# Altium integrated library Altium_WCAP-CSGP_rev19b.IntLib: 939 symbols (part 10 of 16)
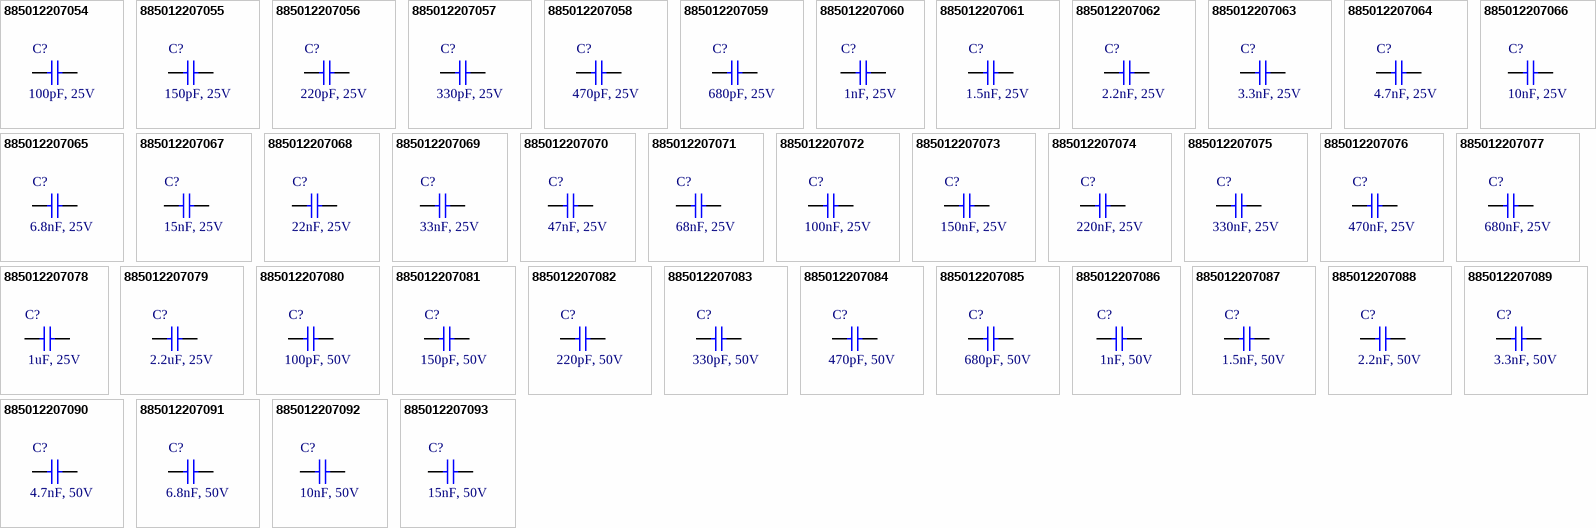
[diagram p36: symbols 885012207054 to 885012207093]

## 885012207070
designator C?, comment 47nF, 25V
WCAP-CSGP General Purpose Ceramic Capacitors, size 0805, 47nF, +/-10%, 25VDC; Part Number: 885012207070; Isolation Resistance: >=10GOhm; Ceramic Type: X7R; Technical Reference: X7R0805473K025DFCT10000; ComponentLink1Description: Manufacturer; ComponentLink1URL: http://www.we-online.de; ComponentLink2Description: Datasheet; ComponentLink2URL: https://katalog.we-online.com/pbs/datasheet/885012207070.pdf; Operating Temperature: -55 to +125degC; Packaging: Tape and Reel; Publisher: Wurth Elektronik; Rated Voltage: 25VDC; Published Date: August 2019; Capacitance Tolerance: +/-10%; Dissipation Factor: =<3.5%; Height: 0.8mm +/-0.10mm; Mounting Technology: SMT; Size: 0805; Capacitance: 47nF
footprint WCAP-CSGP_0805_H=0.8mm_Wave
footprint WCAP-CSGP_0805_H=0.8mm_Reflow
pins: 1, 2

## 885012207071
designator C?, comment 68nF, 25V
WCAP-CSGP General Purpose Ceramic Capacitors, size 0805, 68nF, +/-10%, 25VDC; Part Number: 885012207071; Isolation Resistance: >=7.4GOhm; Ceramic Type: X7R; Technical Reference: X7R0805683K025DFCT10000; ComponentLink1Description: Manufacturer; ComponentLink1URL: http://www.we-online.de; ComponentLink2Description: Datasheet; ComponentLink2URL: https://katalog.we-online.com/pbs/datasheet/885012207071.pdf; Operating Temperature: -55 to +125degC; Packaging: Tape and Reel; Publisher: Wurth Elektronik; Rated Voltage: 25VDC; Published Date: August 2019; Capacitance Tolerance: +/-10%; Dissipation Factor: =<3.5%; Height: 0.8mm +/-0.10mm; Mounting Technology: SMT; Size: 0805; Capacitance: 68nF
footprint WCAP-CSGP_0805_H=0.8mm_Wave
footprint WCAP-CSGP_0805_H=0.8mm_Reflow
pins: 1, 2

## 885012207072
designator C?, comment 100nF, 25V
WCAP-CSGP General Purpose Ceramic Capacitors, size 0805, 100nF, +/-10%, 25VDC; Part Number: 885012207072; Isolation Resistance: >=5GOhm; Ceramic Type: X7R; Technical Reference: X7R0805104K025DFCT10000; ComponentLink1Description: Manufacturer; ComponentLink1URL: http://www.we-online.de; ComponentLink2Description: Datasheet; ComponentLink2URL: https://katalog.we-online.com/pbs/datasheet/885012207072.pdf; Operating Temperature: -55 to +125degC; Packaging: Tape and Reel; Publisher: Wurth Elektronik; Rated Voltage: 25VDC; Published Date: August 2019; Capacitance Tolerance: +/-10%; Dissipation Factor: =<3.5%; Height: 0.8mm +/-0.10mm; Mounting Technology: SMT; Size: 0805; Capacitance: 100nF
footprint WCAP-CSGP_0805_H=0.8mm_Wave
footprint WCAP-CSGP_0805_H=0.8mm_Reflow
pins: 1, 2

## 885012207073
designator C?, comment 150nF, 25V
WCAP-CSGP General Purpose Ceramic Capacitors, size 0805, 150nF, +/-10%, 25VDC; Part Number: 885012207073; Isolation Resistance: >=3.3GOhm; Ceramic Type: X7R; Technical Reference: X7R0805154K025DFCT10000; ComponentLink1Description: Manufacturer; ComponentLink1URL: http://www.we-online.de; ComponentLink2Description: Datasheet; ComponentLink2URL: https://katalog.we-online.com/pbs/datasheet/885012207073.pdf; Operating Temperature: -55 to +125degC; Packaging: Tape and Reel; Publisher: Wurth Elektronik; Rated Voltage: 25VDC; Published Date: August 2019; Capacitance Tolerance: +/-10%; Dissipation Factor: =<3.5%; Height: 1.25mm +/-0.10mm; Mounting Technology: SMT; Size: 0805; Capacitance: 150nF
footprint WCAP-CSGP_0805_H=1.25mm
pins: 1, 2

## 885012207074
designator C?, comment 220nF, 25V
WCAP-CSGP General Purpose Ceramic Capacitors, size 0805, 220nF, +/-10%, 25VDC; Part Number: 885012207074; Isolation Resistance: >=2.3GOhm; Ceramic Type: X7R; Technical Reference: X7R0805224K025DFCT10000; ComponentLink1Description: Manufacturer; ComponentLink1URL: http://www.we-online.de; ComponentLink2Description: Datasheet; ComponentLink2URL: https://katalog.we-online.com/pbs/datasheet/885012207074.pdf; Operating Temperature: -55 to +125degC; Packaging: Tape and Reel; Publisher: Wurth Elektronik; Rated Voltage: 25VDC; Published Date: August 2019; Capacitance Tolerance: +/-10%; Dissipation Factor: =<3.5%; Height: 1.25mm +/-0.10mm; Mounting Technology: SMT; Size: 0805; Capacitance: 220nF
footprint WCAP-CSGP_0805_H=1.25mm
pins: 1, 2

## 885012207075
designator C?, comment 330nF, 25V
WCAP-CSGP General Purpose Ceramic Capacitors, size 0805, 330nF, +/-10%, 25VDC; Part Number: 885012207075; Isolation Resistance: >=1.5GOhm; Ceramic Type: X7R; Technical Reference: X7R0805334K025DFCT10000; ComponentLink1Description: Manufacturer; ComponentLink1URL: http://www.we-online.de; ComponentLink2Description: Datasheet; ComponentLink2URL: https://katalog.we-online.com/pbs/datasheet/885012207075.pdf; Operating Temperature: -55 to +125degC; Packaging: Tape and Reel; Publisher: Wurth Elektronik; Rated Voltage: 25VDC; Published Date: August 2019; Capacitance Tolerance: +/-10%; Dissipation Factor: =<3.5%; Height: 1.25mm +/-0.10mm; Mounting Technology: SMT; Size: 0805; Capacitance: 330nF
footprint WCAP-CSGP_0805_H=1.25mm
pins: 1, 2

## 885012207076
designator C?, comment 470nF, 25V
WCAP-CSGP General Purpose Ceramic Capacitors, size 0805, 470nF, +/-10%, 25VDC; Part Number: 885012207076; Isolation Resistance: >=1.1GOhm; Ceramic Type: X7R; Technical Reference: X7R0805474K025DFCT10000; ComponentLink1Description: Manufacturer; ComponentLink1URL: http://www.we-online.de; ComponentLink2Description: Datasheet; ComponentLink2URL: https://katalog.we-online.com/pbs/datasheet/885012207076.pdf; Operating Temperature: -55 to +125degC; Packaging: Tape and Reel; Publisher: Wurth Elektronik; Rated Voltage: 25VDC; Published Date: August 2019; Capacitance Tolerance: +/-10%; Dissipation Factor: =<3.5%; Height: 1.25mm +/-0.10mm; Mounting Technology: SMT; Size: 0805; Capacitance: 470nF
footprint WCAP-CSGP_0805_H=1.25mm
pins: 1, 2

## 885012207077
designator C?, comment 680nF, 25V
WCAP-CSGP General Purpose Ceramic Capacitors, size 0805, 680nF, +/-10%, 25VDC; Part Number: 885012207077; Isolation Resistance: >=0.7GOhm; Ceramic Type: X7R; Technical Reference: X7R0805684K025DFCT10000; ComponentLink1Description: Manufacturer; ComponentLink1URL: http://www.we-online.de; ComponentLink2Description: Datasheet; ComponentLink2URL: https://katalog.we-online.com/pbs/datasheet/885012207077.pdf; Operating Temperature: -55 to +125degC; Packaging: Tape and Reel; Publisher: Wurth Elektronik; Rated Voltage: 25VDC; Published Date: August 2019; Capacitance Tolerance: +/-10%; Dissipation Factor: =<3.5%; Height: 1.25mm +/-0.10mm; Mounting Technology: SMT; Size: 0805; Capacitance: 680nF
footprint WCAP-CSGP_0805_H=1.25mm
pins: 1, 2

## 885012207078
designator C?, comment 1uF, 25V
WCAP-CSGP General Purpose Ceramic Capacitors, size 0805, 1uF, +/-10%, 25VDC; Part Number: 885012207078; Isolation Resistance: >=0.5GOhm; Ceramic Type: X7R; Technical Reference: X7R0805105K025DFCT10000; ComponentLink1Description: Manufacturer; ComponentLink1URL: http://www.we-online.de; ComponentLink2Description: Datasheet; ComponentLink2URL: https://katalog.we-online.com/pbs/datasheet/885012207078.pdf; Operating Temperature: -55 to +125degC; Packaging: Tape and Reel; Publisher: Wurth Elektronik; Rated Voltage: 25VDC; Published Date: August 2019; Capacitance Tolerance: +/-10%; Dissipation Factor: =<5%; Height: 1.25mm +/-0.10mm; Mounting Technology: SMT; Size: 0805; Capacitance: 1uF
footprint WCAP-CSGP_0805_H=1.25mm
pins: 1, 2

## 885012207079
designator C?, comment 2.2uF, 25V
WCAP-CSGP General Purpose Ceramic Capacitors, size 0805, 2.2uF, +/-10%, 25VDC; Part Number: 885012207079; Isolation Resistance: >=0.05GOhm; Ceramic Type: X7R; Technical Reference: X7R0805225K025DFCT10000; ComponentLink1Description: Manufacturer; ComponentLink1URL: http://www.we-online.de; ComponentLink2Description: Datasheet; ComponentLink2URL: https://katalog.we-online.com/pbs/datasheet/885012207079.pdf; Operating Temperature: -55 to +125degC; Packaging: Tape and Reel; Publisher: Wurth Elektronik; Rated Voltage: 25VDC; Published Date: August 2019; Capacitance Tolerance: +/-10%; Dissipation Factor: =<10%; Height: 1.25mm +/-0.20mm; Mounting Technology: SMT; Size: 0805; Capacitance: 2.2uF
footprint WCAP-CSGP_0805_H=1.25mm
pins: 1, 2

## 885012207080
designator C?, comment 100pF, 50V
WCAP-CSGP General Purpose Ceramic Capacitors, size 0805, 100pF, +/-10%, 50VDC; Part Number: 885012207080; Isolation Resistance: >=10GOhm; Ceramic Type: X7R; Technical Reference: X7R0805101K050DFCT10000; ComponentLink1Description: Manufacturer; ComponentLink1URL: http://www.we-online.de; ComponentLink2Description: Datasheet; ComponentLink2URL: https://katalog.we-online.com/pbs/datasheet/885012207080.pdf; Operating Temperature: -55 to +125degC; Packaging: Tape and Reel; Publisher: Wurth Elektronik; Rated Voltage: 50VDC; Published Date: August 2019; Capacitance Tolerance: +/-10%; Dissipation Factor: =<2.5%; Height: 0.8mm +/-0.10mm; Mounting Technology: SMT; Size: 0805; Capacitance: 100pF
footprint WCAP-CSGP_0805_H=0.8mm_Wave
footprint WCAP-CSGP_0805_H=0.8mm_Reflow
pins: 1, 2

## 885012207081
designator C?, comment 150pF, 50V
WCAP-CSGP General Purpose Ceramic Capacitors, size 0805, 150pF, +/-10%, 50VDC; Part Number: 885012207081; Isolation Resistance: >=10GOhm; Ceramic Type: X7R; Technical Reference: X7R0805151K050DFCT10000; ComponentLink1Description: Manufacturer; ComponentLink1URL: http://www.we-online.de; ComponentLink2Description: Datasheet; ComponentLink2URL: https://katalog.we-online.com/pbs/datasheet/885012207081.pdf; Operating Temperature: -55 to +125degC; Packaging: Tape and Reel; Publisher: Wurth Elektronik; Rated Voltage: 50VDC; Published Date: August 2019; Capacitance Tolerance: +/-10%; Dissipation Factor: =<2.5%; Height: 0.8mm +/-0.10mm; Mounting Technology: SMT; Size: 0805; Capacitance: 150pF
footprint WCAP-CSGP_0805_H=0.8mm_Wave
footprint WCAP-CSGP_0805_H=0.8mm_Reflow
pins: 1, 2

## 885012207082
designator C?, comment 220pF, 50V
WCAP-CSGP General Purpose Ceramic Capacitors, size 0805, 220pF, +/-10%, 50VDC; Part Number: 885012207082; Isolation Resistance: >=10GOhm; Ceramic Type: X7R; Technical Reference: X7R0805221K050DFCT10000; ComponentLink1Description: Manufacturer; ComponentLink1URL: http://www.we-online.de; ComponentLink2Description: Datasheet; ComponentLink2URL: https://katalog.we-online.com/pbs/datasheet/885012207082.pdf; Operating Temperature: -55 to +125degC; Packaging: Tape and Reel; Publisher: Wurth Elektronik; Rated Voltage: 50VDC; Published Date: August 2019; Capacitance Tolerance: +/-10%; Dissipation Factor: =<2.5%; Height: 0.8mm +/-0.10mm; Mounting Technology: SMT; Size: 0805; Capacitance: 220pF
footprint WCAP-CSGP_0805_H=0.8mm_Wave
footprint WCAP-CSGP_0805_H=0.8mm_Reflow
pins: 1, 2

## 885012207083
designator C?, comment 330pF, 50V
WCAP-CSGP General Purpose Ceramic Capacitors, size 0805, 330pF, +/-10%, 50VDC; Part Number: 885012207083; Isolation Resistance: >=10GOhm; Ceramic Type: X7R; Technical Reference: X7R0805331K050DFCT10000; ComponentLink1Description: Manufacturer; ComponentLink1URL: http://www.we-online.de; ComponentLink2Description: Datasheet; ComponentLink2URL: https://katalog.we-online.com/pbs/datasheet/885012207083.pdf; Operating Temperature: -55 to +125degC; Packaging: Tape and Reel; Publisher: Wurth Elektronik; Rated Voltage: 50VDC; Published Date: August 2019; Capacitance Tolerance: +/-10%; Dissipation Factor: =<2.5%; Height: 0.8mm +/-0.10mm; Mounting Technology: SMT; Size: 0805; Capacitance: 330pF
footprint WCAP-CSGP_0805_H=0.8mm_Wave
footprint WCAP-CSGP_0805_H=0.8mm_Reflow
pins: 1, 2

## 885012207084
designator C?, comment 470pF, 50V
WCAP-CSGP General Purpose Ceramic Capacitors, size 0805, 470pF, +/-10%, 50VDC; Part Number: 885012207084; Isolation Resistance: >=10GOhm; Ceramic Type: X7R; Technical Reference: X7R0805471K050DFCT10000; ComponentLink1Description: Manufacturer; ComponentLink1URL: http://www.we-online.de; ComponentLink2Description: Datasheet; ComponentLink2URL: https://katalog.we-online.com/pbs/datasheet/885012207084.pdf; Operating Temperature: -55 to +125degC; Packaging: Tape and Reel; Publisher: Wurth Elektronik; Rated Voltage: 50VDC; Published Date: August 2019; Capacitance Tolerance: +/-10%; Dissipation Factor: =<2.5%; Height: 0.8mm +/-0.10mm; Mounting Technology: SMT; Size: 0805; Capacitance: 470pF
footprint WCAP-CSGP_0805_H=0.8mm_Wave
footprint WCAP-CSGP_0805_H=0.8mm_Reflow
pins: 1, 2

## 885012207085
designator C?, comment 680pF, 50V
WCAP-CSGP General Purpose Ceramic Capacitors, size 0805, 680pF, +/-10%, 50VDC; Part Number: 885012207085; Isolation Resistance: >=10GOhm; Ceramic Type: X7R; Technical Reference: X7R0805681K050DFCT10000; ComponentLink1Description: Manufacturer; ComponentLink1URL: http://www.we-online.de; ComponentLink2Description: Datasheet; ComponentLink2URL: https://katalog.we-online.com/pbs/datasheet/885012207085.pdf; Operating Temperature: -55 to +125degC; Packaging: Tape and Reel; Publisher: Wurth Elektronik; Rated Voltage: 50VDC; Published Date: August 2019; Capacitance Tolerance: +/-10%; Dissipation Factor: =<2.5%; Height: 0.8mm +/-0.10mm; Mounting Technology: SMT; Size: 0805; Capacitance: 680pF
footprint WCAP-CSGP_0805_H=0.8mm_Wave
footprint WCAP-CSGP_0805_H=0.8mm_Reflow
pins: 1, 2

## 885012207086
designator C?, comment 1nF, 50V
WCAP-CSGP General Purpose Ceramic Capacitors, size 0805, 1nF, +/-10%, 50VDC; Part Number: 885012207086; Isolation Resistance: >=10GOhm; Ceramic Type: X7R; Technical Reference: X7R0805102K050DFCT10000; ComponentLink1Description: Manufacturer; ComponentLink1URL: http://www.we-online.de; ComponentLink2Description: Datasheet; ComponentLink2URL: https://katalog.we-online.com/pbs/datasheet/885012207086.pdf; Operating Temperature: -55 to +125degC; Packaging: Tape and Reel; Publisher: Wurth Elektronik; Rated Voltage: 50VDC; Published Date: August 2019; Capacitance Tolerance: +/-10%; Dissipation Factor: =<2.5%; Height: 0.8mm +/-0.10mm; Mounting Technology: SMT; Size: 0805; Capacitance: 1nF
footprint WCAP-CSGP_0805_H=0.8mm_Wave
footprint WCAP-CSGP_0805_H=0.8mm_Reflow
pins: 1, 2

## 885012207087
designator C?, comment 1.5nF, 50V
WCAP-CSGP General Purpose Ceramic Capacitors, size 0805, 1.5nF, +/-10%, 50VDC; Part Number: 885012207087; Isolation Resistance: >=10GOhm; Ceramic Type: X7R; Technical Reference: X7R0805152K050DFCT10000; ComponentLink1Description: Manufacturer; ComponentLink1URL: http://www.we-online.de; ComponentLink2Description: Datasheet; ComponentLink2URL: https://katalog.we-online.com/pbs/datasheet/885012207087.pdf; Operating Temperature: -55 to +125degC; Packaging: Tape and Reel; Publisher: Wurth Elektronik; Rated Voltage: 50VDC; Published Date: August 2019; Capacitance Tolerance: +/-10%; Dissipation Factor: =<2.5%; Height: 0.8mm +/-0.10mm; Mounting Technology: SMT; Size: 0805; Capacitance: 1.5nF
footprint WCAP-CSGP_0805_H=0.8mm_Wave
footprint WCAP-CSGP_0805_H=0.8mm_Reflow
pins: 1, 2

## 885012207088
designator C?, comment 2.2nF, 50V
WCAP-CSGP General Purpose Ceramic Capacitors, size 0805, 2.2nF, +/-10%, 50VDC; Part Number: 885012207088; Isolation Resistance: >=10GOhm; Ceramic Type: X7R; Technical Reference: X7R0805222K050DFCT10000; ComponentLink1Description: Manufacturer; ComponentLink1URL: http://www.we-online.de; ComponentLink2Description: Datasheet; ComponentLink2URL: https://katalog.we-online.com/pbs/datasheet/885012207088.pdf; Operating Temperature: -55 to +125degC; Packaging: Tape and Reel; Publisher: Wurth Elektronik; Rated Voltage: 50VDC; Published Date: August 2019; Capacitance Tolerance: +/-10%; Dissipation Factor: =<2.5%; Height: 0.8mm +/-0.10mm; Mounting Technology: SMT; Size: 0805; Capacitance: 2.2nF
footprint WCAP-CSGP_0805_H=0.8mm_Wave
footprint WCAP-CSGP_0805_H=0.8mm_Reflow
pins: 1, 2

## 885012207089
designator C?, comment 3.3nF, 50V
WCAP-CSGP General Purpose Ceramic Capacitors, size 0805, 3.3nF, +/-10%, 50VDC; Part Number: 885012207089; Isolation Resistance: >=10GOhm; Ceramic Type: X7R; Technical Reference: X7R0805332K050DFCT10000; ComponentLink1Description: Manufacturer; ComponentLink1URL: http://www.we-online.de; ComponentLink2Description: Datasheet; ComponentLink2URL: https://katalog.we-online.com/pbs/datasheet/885012207089.pdf; Operating Temperature: -55 to +125degC; Packaging: Tape and Reel; Publisher: Wurth Elektronik; Rated Voltage: 50VDC; Published Date: August 2019; Capacitance Tolerance: +/-10%; Dissipation Factor: =<2.5%; Height: 0.8mm +/-0.10mm; Mounting Technology: SMT; Size: 0805; Capacitance: 3.3nF
footprint WCAP-CSGP_0805_H=0.8mm_Wave
footprint WCAP-CSGP_0805_H=0.8mm_Reflow
pins: 1, 2

## 885012207090
designator C?, comment 4.7nF, 50V
WCAP-CSGP General Purpose Ceramic Capacitors, size 0805, 4.7nF, +/-10%, 50VDC; Part Number: 885012207090; Isolation Resistance: >=10GOhm; Ceramic Type: X7R; Technical Reference: X7R0805472K050DFCT10000; ComponentLink1Description: Manufacturer; ComponentLink1URL: http://www.we-online.de; ComponentLink2Description: Datasheet; ComponentLink2URL: https://katalog.we-online.com/pbs/datasheet/885012207090.pdf; Operating Temperature: -55 to +125degC; Packaging: Tape and Reel; Publisher: Wurth Elektronik; Rated Voltage: 50VDC; Published Date: August 2019; Capacitance Tolerance: +/-10%; Dissipation Factor: =<2.5%; Height: 0.8mm +/-0.10mm; Mounting Technology: SMT; Size: 0805; Capacitance: 4.7nF
footprint WCAP-CSGP_0805_H=0.8mm_Wave
footprint WCAP-CSGP_0805_H=0.8mm_Reflow
pins: 1, 2

## 885012207091
designator C?, comment 6.8nF, 50V
WCAP-CSGP General Purpose Ceramic Capacitors, size 0805, 6.8nF, +/-10%, 50VDC; Part Number: 885012207091; Isolation Resistance: >=10GOhm; Ceramic Type: X7R; Technical Reference: X7R0805682K050DFCT10000; ComponentLink1Description: Manufacturer; ComponentLink1URL: http://www.we-online.de; ComponentLink2Description: Datasheet; ComponentLink2URL: https://katalog.we-online.com/pbs/datasheet/885012207091.pdf; Operating Temperature: -55 to +125degC; Packaging: Tape and Reel; Publisher: Wurth Elektronik; Rated Voltage: 50VDC; Published Date: August 2019; Capacitance Tolerance: +/-10%; Dissipation Factor: =<2.5%; Height: 0.8mm +/-0.10mm; Mounting Technology: SMT; Size: 0805; Capacitance: 6.8nF
footprint WCAP-CSGP_0805_H=0.8mm_Wave
footprint WCAP-CSGP_0805_H=0.8mm_Reflow
pins: 1, 2

## 885012207092
designator C?, comment 10nF, 50V
WCAP-CSGP General Purpose Ceramic Capacitors, size 0805, 10nF, +/-10%, 50VDC; Part Number: 885012207092; Isolation Resistance: >=10GOhm; Ceramic Type: X7R; Technical Reference: X7R0805103K050DFCT10000; ComponentLink1Description: Manufacturer; ComponentLink1URL: http://www.we-online.de; ComponentLink2Description: Datasheet; ComponentLink2URL: https://katalog.we-online.com/pbs/datasheet/885012207092.pdf; Operating Temperature: -55 to +125degC; Packaging: Tape and Reel; Publisher: Wurth Elektronik; Rated Voltage: 50VDC; Published Date: August 2019; Capacitance Tolerance: +/-10%; Dissipation Factor: =<2.5%; Height: 0.8mm +/-0.10mm; Mounting Technology: SMT; Size: 0805; Capacitance: 10nF
footprint WCAP-CSGP_0805_H=0.8mm_Wave
footprint WCAP-CSGP_0805_H=0.8mm_Reflow
pins: 1, 2

## 885012207093
designator C?, comment 15nF, 50V
WCAP-CSGP General Purpose Ceramic Capacitors, size 0805, 15nF, +/-10%, 50VDC; Part Number: 885012207093; Isolation Resistance: >=10GOhm; Ceramic Type: X7R; Technical Reference: X7R0805153K050DFCT10000; ComponentLink1Description: Manufacturer; ComponentLink1URL: http://www.we-online.de; ComponentLink2Description: Datasheet; ComponentLink2URL: https://katalog.we-online.com/pbs/datasheet/885012207093.pdf; Operating Temperature: -55 to +125degC; Packaging: Tape and Reel; Publisher: Wurth Elektronik; Rated Voltage: 50VDC; Published Date: August 2019; Capacitance Tolerance: +/-10%; Dissipation Factor: =<2.5%; Height: 0.8mm +/-0.10mm; Mounting Technology: SMT; Size: 0805; Capacitance: 15nF
footprint WCAP-CSGP_0805_H=0.8mm_Wave
footprint WCAP-CSGP_0805_H=0.8mm_Reflow
pins: 1, 2

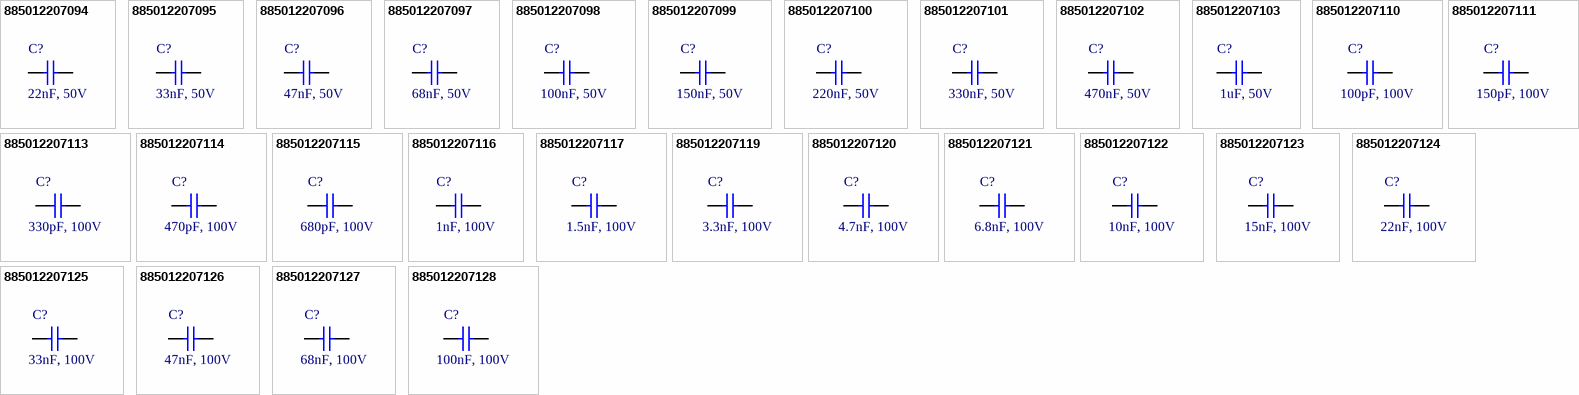
[diagram p16: symbols 885012207094 to 885012207128]

## 885012207094
designator C?, comment 22nF, 50V
WCAP-CSGP General Purpose Ceramic Capacitors, size 0805, 22nF, +/-10%, 50VDC; Part Number: 885012207094; Isolation Resistance: >=10GOhm; Ceramic Type: X7R; Technical Reference: X7R0805223K050DFCT10000; ComponentLink1Description: Manufacturer; ComponentLink1URL: http://www.we-online.de; ComponentLink2Description: Datasheet; ComponentLink2URL: https://katalog.we-online.com/pbs/datasheet/885012207094.pdf; Operating Temperature: -55 to +125degC; Packaging: Tape and Reel; Publisher: Wurth Elektronik; Rated Voltage: 50VDC; Published Date: August 2019; Capacitance Tolerance: +/-10%; Dissipation Factor: =<2.5%; Height: 0.8mm +/-0.10mm; Mounting Technology: SMT; Size: 0805; Capacitance: 22nF
footprint WCAP-CSGP_0805_H=0.8mm_Wave
footprint WCAP-CSGP_0805_H=0.8mm_Reflow
pins: 1, 2

## 885012207095
designator C?, comment 33nF, 50V
WCAP-CSGP General Purpose Ceramic Capacitors, size 0805, 33nF, +/-10%, 50VDC; Part Number: 885012207095; Isolation Resistance: >=10GOhm; Ceramic Type: X7R; Technical Reference: X7R0805333K050DFCT10000; ComponentLink1Description: Manufacturer; ComponentLink1URL: http://www.we-online.de; ComponentLink2Description: Datasheet; ComponentLink2URL: https://katalog.we-online.com/pbs/datasheet/885012207095.pdf; Operating Temperature: -55 to +125degC; Packaging: Tape and Reel; Publisher: Wurth Elektronik; Rated Voltage: 50VDC; Published Date: August 2019; Capacitance Tolerance: +/-10%; Dissipation Factor: =<2.5%; Height: 0.8mm +/-0.10mm; Mounting Technology: SMT; Size: 0805; Capacitance: 33nF
footprint WCAP-CSGP_0805_H=0.8mm_Wave
footprint WCAP-CSGP_0805_H=0.8mm_Reflow
pins: 1, 2

## 885012207096
designator C?, comment 47nF, 50V
WCAP-CSGP General Purpose Ceramic Capacitors, size 0805, 47nF, +/-10%, 50VDC; Part Number: 885012207096; Isolation Resistance: >=10GOhm; Ceramic Type: X7R; Technical Reference: X7R0805473K050DFCT10000; ComponentLink1Description: Manufacturer; ComponentLink1URL: http://www.we-online.de; ComponentLink2Description: Datasheet; ComponentLink2URL: https://katalog.we-online.com/pbs/datasheet/885012207096.pdf; Operating Temperature: -55 to +125degC; Packaging: Tape and Reel; Publisher: Wurth Elektronik; Rated Voltage: 50VDC; Published Date: August 2019; Capacitance Tolerance: +/-10%; Dissipation Factor: =<2.5%; Height: 0.8mm +/-0.10mm; Mounting Technology: SMT; Size: 0805; Capacitance: 47nF
footprint WCAP-CSGP_0805_H=0.8mm_Wave
footprint WCAP-CSGP_0805_H=0.8mm_Reflow
pins: 1, 2

## 885012207097
designator C?, comment 68nF, 50V
WCAP-CSGP General Purpose Ceramic Capacitors, size 0805, 68nF, +/-10%, 50VDC; Part Number: 885012207097; Isolation Resistance: >=7.4GOhm; Ceramic Type: X7R; Technical Reference: X7R0805683K050DFCT10000; ComponentLink1Description: Manufacturer; ComponentLink1URL: http://www.we-online.de; ComponentLink2Description: Datasheet; ComponentLink2URL: https://katalog.we-online.com/pbs/datasheet/885012207097.pdf; Operating Temperature: -55 to +125degC; Packaging: Tape and Reel; Publisher: Wurth Elektronik; Rated Voltage: 50VDC; Published Date: August 2019; Capacitance Tolerance: +/-10%; Dissipation Factor: =<2.5%; Height: 0.8mm +/-0.10mm; Mounting Technology: SMT; Size: 0805; Capacitance: 68nF
footprint WCAP-CSGP_0805_H=0.8mm_Wave
footprint WCAP-CSGP_0805_H=0.8mm_Reflow
pins: 1, 2

## 885012207098
designator C?, comment 100nF, 50V
WCAP-CSGP General Purpose Ceramic Capacitors, size 0805, 100nF, +/-10%, 50VDC; Part Number: 885012207098; Isolation Resistance: >=5GOhm; Ceramic Type: X7R; Technical Reference: X7R0805104K050DFCT10000; ComponentLink1Description: Manufacturer; ComponentLink1URL: http://www.we-online.de; ComponentLink2Description: Datasheet; ComponentLink2URL: https://katalog.we-online.com/pbs/datasheet/885012207098.pdf; Operating Temperature: -55 to +125degC; Packaging: Tape and Reel; Publisher: Wurth Elektronik; Rated Voltage: 50VDC; Published Date: August 2019; Capacitance Tolerance: +/-10%; Dissipation Factor: =<2.5%; Height: 0.8mm +/-0.10mm; Mounting Technology: SMT; Size: 0805; Capacitance: 100nF
footprint WCAP-CSGP_0805_H=0.8mm_Wave
footprint WCAP-CSGP_0805_H=0.8mm_Reflow
pins: 1, 2

## 885012207099
designator C?, comment 150nF, 50V
WCAP-CSGP General Purpose Ceramic Capacitors, size 0805, 150nF, +/-10%, 50VDC; Part Number: 885012207099; Isolation Resistance: >=3.3GOhm; Ceramic Type: X7R; Technical Reference: X7R0805154K050DFCT10000; ComponentLink1Description: Manufacturer; ComponentLink1URL: http://www.we-online.de; ComponentLink2Description: Datasheet; ComponentLink2URL: https://katalog.we-online.com/pbs/datasheet/885012207099.pdf; Operating Temperature: -55 to +125degC; Packaging: Tape and Reel; Publisher: Wurth Elektronik; Rated Voltage: 50VDC; Published Date: August 2019; Capacitance Tolerance: +/-10%; Dissipation Factor: =<2.5%; Height: 1.25mm +/-0.10mm; Mounting Technology: SMT; Size: 0805; Capacitance: 150nF
footprint WCAP-CSGP_0805_H=1.25mm
pins: 1, 2

## 885012207100
designator C?, comment 220nF, 50V
WCAP-CSGP General Purpose Ceramic Capacitors, size 0805, 220nF, +/-10%, 50VDC; Part Number: 885012207100; Isolation Resistance: >=2.3GOhm; Ceramic Type: X7R; Technical Reference: X7R0805224K050DFCT10000; ComponentLink1Description: Manufacturer; ComponentLink1URL: http://www.we-online.de; ComponentLink2Description: Datasheet; ComponentLink2URL: https://katalog.we-online.com/pbs/datasheet/885012207100.pdf; Operating Temperature: -55 to +125degC; Packaging: Tape and Reel; Publisher: Wurth Elektronik; Rated Voltage: 50VDC; Published Date: August 2019; Capacitance Tolerance: +/-10%; Dissipation Factor: =<3%; Height: 1.25mm +/-0.10mm; Mounting Technology: SMT; Size: 0805; Capacitance: 220nF
footprint WCAP-CSGP_0805_H=1.25mm
pins: 1, 2

## 885012207101
designator C?, comment 330nF, 50V
WCAP-CSGP General Purpose Ceramic Capacitors, size 0805, 330nF, +/-10%, 50VDC; Part Number: 885012207101; Isolation Resistance: >=1.5GOhm; Ceramic Type: X7R; Technical Reference: X7R0805334K050DFCT10000; ComponentLink1Description: Manufacturer; ComponentLink1URL: http://www.we-online.de; ComponentLink2Description: Datasheet; ComponentLink2URL: https://katalog.we-online.com/pbs/datasheet/885012207101.pdf; Operating Temperature: -55 to +125degC; Packaging: Tape and Reel; Publisher: Wurth Elektronik; Rated Voltage: 50VDC; Published Date: August 2019; Capacitance Tolerance: +/-10%; Dissipation Factor: =<3%; Height: 1.25mm +/-0.20mm; Mounting Technology: SMT; Size: 0805; Capacitance: 330nF
footprint WCAP-CSGP_0805_H=1.25mm
pins: 1, 2

## 885012207102
designator C?, comment 470nF, 50V
WCAP-CSGP General Purpose Ceramic Capacitors, size 0805, 470nF, +/-10%, 50VDC; Part Number: 885012207102; Isolation Resistance: >=1.1GOhm; Ceramic Type: X7R; Technical Reference: X7R0805474K050DFCT10000; ComponentLink1Description: Manufacturer; ComponentLink1URL: http://www.we-online.de; ComponentLink2Description: Datasheet; ComponentLink2URL: https://katalog.we-online.com/pbs/datasheet/885012207102.pdf; Operating Temperature: -55 to +125degC; Packaging: Tape and Reel; Publisher: Wurth Elektronik; Rated Voltage: 50VDC; Published Date: August 2019; Capacitance Tolerance: +/-10%; Dissipation Factor: =<3%; Height: 1.25mm +/-0.20mm; Mounting Technology: SMT; Size: 0805; Capacitance: 470nF
footprint WCAP-CSGP_0805_H=1.25mm
pins: 1, 2

## 885012207103
designator C?, comment 1uF, 50V
WCAP-CSGP General Purpose Ceramic Capacitors, size 0805, 1uF, +/-10%, 50VDC; Part Number: 885012207103; Isolation Resistance: >=0.1GOhm; Ceramic Type: X7R; Technical Reference: X7R0805105K050DFCT10000; ComponentLink1Description: Manufacturer; ComponentLink1URL: http://www.we-online.de; ComponentLink2Description: Datasheet; ComponentLink2URL: https://katalog.we-online.com/pbs/datasheet/885012207103.pdf; Operating Temperature: -55 to +125degC; Packaging: Tape and Reel; Publisher: Wurth Elektronik; Rated Voltage: 50VDC; Published Date: August 2019; Capacitance Tolerance: +/-10%; Dissipation Factor: =<10%; Height: 1.25mm +/-0.20mm; Mounting Technology: SMT; Size: 0805; Capacitance: 1uF
footprint WCAP-CSGP_0805_H=1.25mm
pins: 1, 2

## 885012207110
designator C?, comment 100pF, 100V
WCAP-CSGP General Purpose Ceramic Capacitors, size 0805, 100pF, +/-10%, 100VDC; Part Number: 885012207110; Isolation Resistance: >=10GOhm; Ceramic Type: X7R; Technical Reference: X7R0805101K100DFCT10000; ComponentLink1Description: Manufacturer; ComponentLink1URL: http://www.we-online.de; ComponentLink2Description: Datasheet; ComponentLink2URL: https://katalog.we-online.com/pbs/datasheet/885012207110.pdf; Operating Temperature: -55 to +125degC; Packaging: Tape and Reel; Publisher: Wurth Elektronik; Rated Voltage: 100VDC; Published Date: August 2019; Capacitance Tolerance: +/-10%; Dissipation Factor: =<2.5%; Height: 0.8mm +/-0.10mm; Mounting Technology: SMT; Size: 0805; Capacitance: 100pF
footprint WCAP-CSGP_0805_H=0.8mm_Wave
footprint WCAP-CSGP_0805_H=0.8mm_Reflow
pins: 1, 2

## 885012207111
designator C?, comment 150pF, 100V
WCAP-CSGP General Purpose Ceramic Capacitors, size 0805, 150pF, +/-10%, 100VDC; Part Number: 885012207111; Isolation Resistance: >=10GOhm; Ceramic Type: X7R; Technical Reference: X7R0805151K100DFCT10000; ComponentLink1Description: Manufacturer; ComponentLink1URL: http://www.we-online.de; ComponentLink2Description: Datasheet; ComponentLink2URL: https://katalog.we-online.com/pbs/datasheet/885012207111.pdf; Operating Temperature: -55 to +125degC; Packaging: Tape and Reel; Publisher: Wurth Elektronik; Rated Voltage: 100VDC; Published Date: August 2019; Capacitance Tolerance: +/-10%; Dissipation Factor: =<2.5%; Height: 0.8mm +/-0.10mm; Mounting Technology: SMT; Size: 0805; Capacitance: 150pF
footprint WCAP-CSGP_0805_H=0.8mm_Wave
footprint WCAP-CSGP_0805_H=0.8mm_Reflow
pins: 1, 2

## 885012207113
designator C?, comment 330pF, 100V
WCAP-CSGP General Purpose Ceramic Capacitors, size 0805, 330pF, +/-10%, 100VDC; Part Number: 885012207113; Isolation Resistance: >=10GOhm; Ceramic Type: X7R; Technical Reference: X7R0805331K100DFCT10000; ComponentLink1Description: Manufacturer; ComponentLink1URL: http://www.we-online.de; ComponentLink2Description: Datasheet; ComponentLink2URL: https://katalog.we-online.com/pbs/datasheet/885012207113.pdf; Operating Temperature: -55 to +125degC; Packaging: Tape and Reel; Publisher: Wurth Elektronik; Rated Voltage: 100VDC; Published Date: August 2019; Capacitance Tolerance: +/-10%; Dissipation Factor: =<2.5%; Height: 0.8mm +/-0.10mm; Mounting Technology: SMT; Size: 0805; Capacitance: 330pF
footprint WCAP-CSGP_0805_H=0.8mm_Wave
footprint WCAP-CSGP_0805_H=0.8mm_Reflow
pins: 1, 2

## 885012207114
designator C?, comment 470pF, 100V
WCAP-CSGP General Purpose Ceramic Capacitors, size 0805, 470pF, +/-10%, 100VDC; Part Number: 885012207114; Isolation Resistance: >=10GOhm; Ceramic Type: X7R; Technical Reference: X7R0805471K100DFCT10000; ComponentLink1Description: Manufacturer; ComponentLink1URL: http://www.we-online.de; ComponentLink2Description: Datasheet; ComponentLink2URL: https://katalog.we-online.com/pbs/datasheet/885012207114.pdf; Operating Temperature: -55 to +125degC; Packaging: Tape and Reel; Publisher: Wurth Elektronik; Rated Voltage: 100VDC; Published Date: August 2019; Capacitance Tolerance: +/-10%; Dissipation Factor: =<2.5%; Height: 0.8mm +/-0.10mm; Mounting Technology: SMT; Size: 0805; Capacitance: 470pF
footprint WCAP-CSGP_0805_H=0.8mm_Wave
footprint WCAP-CSGP_0805_H=0.8mm_Reflow
pins: 1, 2

## 885012207115
designator C?, comment 680pF, 100V
WCAP-CSGP General Purpose Ceramic Capacitors, size 0805, 680pF, +/-10%, 100VDC; Part Number: 885012207115; Isolation Resistance: >=10GOhm; Ceramic Type: X7R; Technical Reference: X7R0805681K100DFCT10000; ComponentLink1Description: Manufacturer; ComponentLink1URL: http://www.we-online.de; ComponentLink2Description: Datasheet; ComponentLink2URL: https://katalog.we-online.com/pbs/datasheet/885012207115.pdf; Operating Temperature: -55 to +125degC; Packaging: Tape and Reel; Publisher: Wurth Elektronik; Rated Voltage: 100VDC; Published Date: August 2019; Capacitance Tolerance: +/-10%; Dissipation Factor: =<2.5%; Height: 0.8mm +/-0.10mm; Mounting Technology: SMT; Size: 0805; Capacitance: 680pF
footprint WCAP-CSGP_0805_H=0.8mm_Wave
footprint WCAP-CSGP_0805_H=0.8mm_Reflow
pins: 1, 2

## 885012207116
designator C?, comment 1nF, 100V
WCAP-CSGP General Purpose Ceramic Capacitors, size 0805, 1nF, +/-10%, 100VDC; Part Number: 885012207116; Isolation Resistance: >=10GOhm; Ceramic Type: X7R; Technical Reference: X7R0805102K100DFCT10000; ComponentLink1Description: Manufacturer; ComponentLink1URL: http://www.we-online.de; ComponentLink2Description: Datasheet; ComponentLink2URL: https://katalog.we-online.com/pbs/datasheet/885012207116.pdf; Operating Temperature: -55 to +125degC; Packaging: Tape and Reel; Publisher: Wurth Elektronik; Rated Voltage: 100VDC; Published Date: August 2019; Capacitance Tolerance: +/-10%; Dissipation Factor: =<2.5%; Height: 0.8mm +/-0.10mm; Mounting Technology: SMT; Size: 0805; Capacitance: 1nF
footprint WCAP-CSGP_0805_H=0.8mm_Wave
footprint WCAP-CSGP_0805_H=0.8mm_Reflow
pins: 1, 2

## 885012207117
designator C?, comment 1.5nF, 100V
WCAP-CSGP General Purpose Ceramic Capacitors, size 0805, 1.5nF, +/-10%, 100VDC; Part Number: 885012207117; Isolation Resistance: >=10GOhm; Ceramic Type: X7R; Technical Reference: X7R0805152K100DFCT10000; ComponentLink1Description: Manufacturer; ComponentLink1URL: http://www.we-online.de; ComponentLink2Description: Datasheet; ComponentLink2URL: https://katalog.we-online.com/pbs/datasheet/885012207117.pdf; Operating Temperature: -55 to +125degC; Packaging: Tape and Reel; Publisher: Wurth Elektronik; Rated Voltage: 100VDC; Published Date: August 2019; Capacitance Tolerance: +/-10%; Dissipation Factor: =<2.5%; Height: 0.8mm +/-0.10mm; Mounting Technology: SMT; Size: 0805; Capacitance: 1.5nF
footprint WCAP-CSGP_0805_H=0.8mm_Wave
footprint WCAP-CSGP_0805_H=0.8mm_Reflow
pins: 1, 2

## 885012207119
designator C?, comment 3.3nF, 100V
WCAP-CSGP General Purpose Ceramic Capacitors, size 0805, 3.3nF, +/-10%, 100VDC; Part Number: 885012207119; Isolation Resistance: >=10GOhm; Ceramic Type: X7R; Technical Reference: X7R0805332K100DFCT10000; ComponentLink1Description: Manufacturer; ComponentLink1URL: http://www.we-online.de; ComponentLink2Description: Datasheet; ComponentLink2URL: https://katalog.we-online.com/pbs/datasheet/885012207119.pdf; Operating Temperature: -55 to +125degC; Packaging: Tape and Reel; Publisher: Wurth Elektronik; Rated Voltage: 100VDC; Published Date: August 2019; Capacitance Tolerance: +/-10%; Dissipation Factor: =<2.5%; Height: 0.8mm +/-0.10mm; Mounting Technology: SMT; Size: 0805; Capacitance: 3.3nF
footprint WCAP-CSGP_0805_H=0.8mm_Wave
footprint WCAP-CSGP_0805_H=0.8mm_Reflow
pins: 1, 2

## 885012207120
designator C?, comment 4.7nF, 100V
WCAP-CSGP General Purpose Ceramic Capacitors, size 0805, 4.7nF, +/-10%, 100VDC; Part Number: 885012207120; Isolation Resistance: >=10GOhm; Ceramic Type: X7R; Technical Reference: X7R0805472K100DFCT10000; ComponentLink1Description: Manufacturer; ComponentLink1URL: http://www.we-online.de; ComponentLink2Description: Datasheet; ComponentLink2URL: https://katalog.we-online.com/pbs/datasheet/885012207120.pdf; Operating Temperature: -55 to +125degC; Packaging: Tape and Reel; Publisher: Wurth Elektronik; Rated Voltage: 100VDC; Published Date: August 2019; Capacitance Tolerance: +/-10%; Dissipation Factor: =<2.5%; Height: 0.8mm +/-0.10mm; Mounting Technology: SMT; Size: 0805; Capacitance: 4.7nF
footprint WCAP-CSGP_0805_H=0.8mm_Wave
footprint WCAP-CSGP_0805_H=0.8mm_Reflow
pins: 1, 2

## 885012207121
designator C?, comment 6.8nF, 100V
WCAP-CSGP General Purpose Ceramic Capacitors, size 0805, 6.8nF, +/-10%, 100VDC; Part Number: 885012207121; Isolation Resistance: >=10GOhm; Ceramic Type: X7R; Technical Reference: X7R0805682K100DFCT10000; ComponentLink1Description: Manufacturer; ComponentLink1URL: http://www.we-online.de; ComponentLink2Description: Datasheet; ComponentLink2URL: https://katalog.we-online.com/pbs/datasheet/885012207121.pdf; Operating Temperature: -55 to +125degC; Packaging: Tape and Reel; Publisher: Wurth Elektronik; Rated Voltage: 100VDC; Published Date: August 2019; Capacitance Tolerance: +/-10%; Dissipation Factor: =<2.5%; Height: 0.8mm +/-0.10mm; Mounting Technology: SMT; Size: 0805; Capacitance: 6.8nF
footprint WCAP-CSGP_0805_H=0.8mm_Wave
footprint WCAP-CSGP_0805_H=0.8mm_Reflow
pins: 1, 2

## 885012207122
designator C?, comment 10nF, 100V
WCAP-CSGP General Purpose Ceramic Capacitors, size 0805, 10nF, +/-10%, 100VDC; Part Number: 885012207122; Isolation Resistance: >=10GOhm; Ceramic Type: X7R; Technical Reference: X7R0805103K100DFCT10000; ComponentLink1Description: Manufacturer; ComponentLink1URL: http://www.we-online.de; ComponentLink2Description: Datasheet; ComponentLink2URL: https://katalog.we-online.com/pbs/datasheet/885012207122.pdf; Operating Temperature: -55 to +125degC; Packaging: Tape and Reel; Publisher: Wurth Elektronik; Rated Voltage: 100VDC; Published Date: August 2019; Capacitance Tolerance: +/-10%; Dissipation Factor: =<2.5%; Height: 0.8mm +/-0.10mm; Mounting Technology: SMT; Size: 0805; Capacitance: 10nF
footprint WCAP-CSGP_0805_H=0.8mm_Wave
footprint WCAP-CSGP_0805_H=0.8mm_Reflow
pins: 1, 2

## 885012207123
designator C?, comment 15nF, 100V
WCAP-CSGP General Purpose Ceramic Capacitors, size 0805, 15nF, +/-10%, 100VDC; Part Number: 885012207123; Isolation Resistance: >=6.7GOhm; Ceramic Type: X7R; Technical Reference: X7R0805153K100DFCT10000; ComponentLink1Description: Manufacturer; ComponentLink1URL: http://www.we-online.de; ComponentLink2Description: Datasheet; ComponentLink2URL: https://katalog.we-online.com/pbs/datasheet/885012207123.pdf; Operating Temperature: -55 to +125degC; Packaging: Tape and Reel; Publisher: Wurth Elektronik; Rated Voltage: 100VDC; Published Date: August 2019; Capacitance Tolerance: +/-10%; Dissipation Factor: =<2.5%; Height: 0.8mm +/-0.10mm; Mounting Technology: SMT; Size: 0805; Capacitance: 15nF
footprint WCAP-CSGP_0805_H=0.8mm_Wave
footprint WCAP-CSGP_0805_H=0.8mm_Reflow
pins: 1, 2

## 885012207124
designator C?, comment 22nF, 100V
WCAP-CSGP General Purpose Ceramic Capacitors, size 0805, 22nF, +/-10%, 100VDC; Part Number: 885012207098; Isolation Resistance: >=4.5GOhm; Ceramic Type: X7R; Technical Reference: X7R0805223K100DFCT10000; ComponentLink1Description: Manufacturer; ComponentLink1URL: http://www.we-online.de; ComponentLink2Description: Datasheet; ComponentLink2URL: https://www.we-online.com/catalog/datasheet/885012207124.pdf; Operating Temperature: -55 to +125degC; Packaging: Tape and Reel; Publisher: Wurth Elektronik; Rated Voltage: 100VDC; Published Date: December 2019; Capacitance Tolerance: +/-10%; Dissipation Factor: =<2.5%; Height: 0.8mm +/-0.10mm; Mounting Technology: SMT; Size: 0805; Capacitance: 22nF
footprint WCAP-CSGP_0805_H=0.8mm_Wave
footprint WCAP-CSGP_0805_H=0.8mm_Reflow
pins: 1, 2

## 885012207125
designator C?, comment 33nF, 100V
WCAP-CSGP General Purpose Ceramic Capacitors, size 0805, 33nF, +/-10%, 100VDC; Part Number: 885012207125; Isolation Resistance: >=3GOhm; Ceramic Type: X7R; Technical Reference: X7R0805333K100DFCT10000; ComponentLink1Description: Manufacturer; ComponentLink1URL: http://www.we-online.de; ComponentLink2Description: Datasheet; ComponentLink2URL: https://katalog.we-online.com/pbs/datasheet/885012207125.pdf; Operating Temperature: -55 to +125degC; Packaging: Tape and Reel; Publisher: Wurth Elektronik; Rated Voltage: 100VDC; Published Date: August 2019; Capacitance Tolerance: +/-10%; Dissipation Factor: =<2.5%; Height: 1.25mm +/-0.10mm; Mounting Technology: SMT; Size: 0805; Capacitance: 33nF
footprint WCAP-CSGP_0805_H=1.25mm
pins: 1, 2

## 885012207126
designator C?, comment 47nF, 100V
WCAP-CSGP General Purpose Ceramic Capacitors, size 0805, 47nF, +/-10%, 100VDC; Part Number: 885012207126; Isolation Resistance: >=2.1GOhm; Ceramic Type: X7R; Technical Reference: X7R0805473K100DFCT10000; ComponentLink1Description: Manufacturer; ComponentLink1URL: http://www.we-online.de; ComponentLink2Description: Datasheet; ComponentLink2URL: https://katalog.we-online.com/pbs/datasheet/885012207126.pdf; Operating Temperature: -55 to +125degC; Packaging: Tape and Reel; Publisher: Wurth Elektronik; Rated Voltage: 100VDC; Published Date: August 2019; Capacitance Tolerance: +/-10%; Dissipation Factor: =<2.5%; Height: 1.25mm +/-0.10mm; Mounting Technology: SMT; Size: 0805; Capacitance: 47nF
footprint WCAP-CSGP_0805_H=1.25mm
pins: 1, 2

## 885012207127
designator C?, comment 68nF, 100V
WCAP-CSGP General Purpose Ceramic Capacitors, size 0805, 68nF, +/-10%, 100VDC; Part Number: 885012207127; Isolation Resistance: >=1.5GOhm; Ceramic Type: X7R; Technical Reference: X7R0805683K100DFCT10000; ComponentLink1Description: Manufacturer; ComponentLink1URL: http://www.we-online.de; ComponentLink2Description: Datasheet; ComponentLink2URL: https://katalog.we-online.com/pbs/datasheet/885012207127.pdf; Operating Temperature: -55 to +125degC; Packaging: Tape and Reel; Publisher: Wurth Elektronik; Rated Voltage: 100VDC; Published Date: August 2019; Capacitance Tolerance: +/-10%; Dissipation Factor: =<2.5%; Height: 1.25mm +/-0.10mm; Mounting Technology: SMT; Size: 0805; Capacitance: 68nF
footprint WCAP-CSGP_0805_H=1.25mm
pins: 1, 2

## 885012207128
designator C?, comment 100nF, 100V
WCAP-CSGP General Purpose Ceramic Capacitors, size 0805, 100nF, +/-10%, 100VDC; Part Number: 885012207128; Isolation Resistance: >=1GOhm; Ceramic Type: X7R; Technical Reference: X7R0805104K100DFCT10000; ComponentLink1Description: Manufacturer; ComponentLink1URL: http://www.we-online.de; ComponentLink2Description: Datasheet; ComponentLink2URL: https://katalog.we-online.com/pbs/datasheet/885012207128.pdf; Operating Temperature: -55 to +125degC; Packaging: Tape and Reel; Publisher: Wurth Elektronik; Rated Voltage: 100VDC; Published Date: August 2019; Capacitance Tolerance: +/-10%; Dissipation Factor: =<2.5%; Height: 1.25mm +/-0.10mm; Mounting Technology: SMT; Size: 0805; Capacitance: 100nF
footprint WCAP-CSGP_0805_H=1.25mm
pins: 1, 2


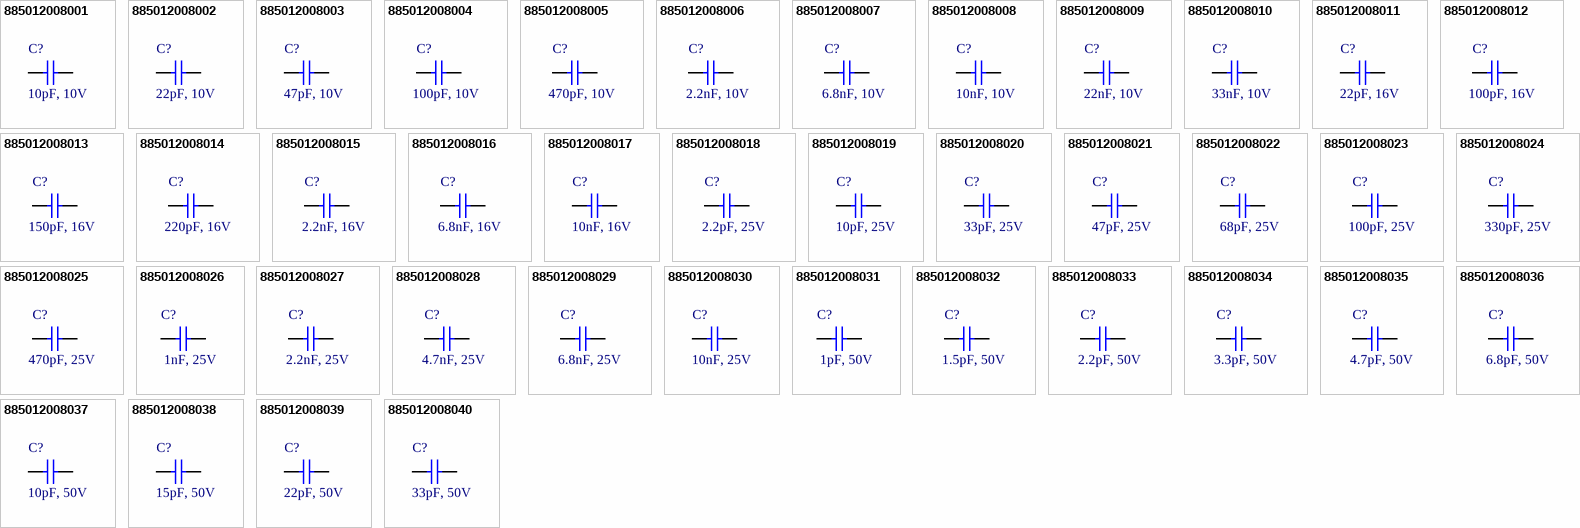
[diagram p17: symbols 885012008001 to 885012008040]

## 885012008001
designator C?, comment 10pF, 10V
WCAP-CSGP General Purpose Ceramic Capacitors, size 1206, 10pF, +/-5%, 10VDC; Part Number: 885012008001; Isolation Resistance: >=10GOhm; Ceramic Type: NP0; Dissipation Factor: Q>=400+20C; Technical Reference: NP01206100J010DFCT10000; ComponentLink1Description: Manufacturer; ComponentLink1URL: http://www.we-online.de; ComponentLink2Description: Datasheet; ComponentLink2URL: https://katalog.we-online.com/pbs/datasheet/885012008001.pdf; Operating Temperature: -55 to +125degC; Packaging: Tape and Reel; Publisher: Wurth Elektronik; Rated Voltage: 10VDC; Published Date: August 2019; Capacitance Tolerance: +/-5%; Height: 0.8mm +/-0.10mm; Mounting Technology: SMT; Size: 1206; Capacitance: 10pF
footprint WCAP-CSGP_1206_H=0.8mm
pins: 1, 2

## 885012008002
designator C?, comment 22pF, 10V
WCAP-CSGP General Purpose Ceramic Capacitors, size 1206, 22pF, +/-5%, 10VDC; Part Number: 885012008002; Isolation Resistance: >=10GOhm; Ceramic Type: NP0; Dissipation Factor: Q>=400+20C; Technical Reference: NP01206220J010DFCT10000; ComponentLink1Description: Manufacturer; ComponentLink1URL: http://www.we-online.de; ComponentLink2Description: Datasheet; ComponentLink2URL: https://katalog.we-online.com/pbs/datasheet/885012008002.pdf; Operating Temperature: -55 to +125degC; Packaging: Tape and Reel; Publisher: Wurth Elektronik; Rated Voltage: 10VDC; Published Date: August 2019; Capacitance Tolerance: +/-5%; Height: 0.8mm +/-0.10mm; Mounting Technology: SMT; Size: 1206; Capacitance: 22pF
footprint WCAP-CSGP_1206_H=0.8mm
pins: 1, 2

## 885012008003
designator C?, comment 47pF, 10V
WCAP-CSGP General Purpose Ceramic Capacitors, size 1206, 47pF, +/-5%, 10VDC; Part Number: 885012008003; Isolation Resistance: >=10GOhm; Ceramic Type: NP0; Dissipation Factor: Q>=1000; Technical Reference: NP01206470J010DFCT10000; ComponentLink1Description: Manufacturer; ComponentLink1URL: http://www.we-online.de; ComponentLink2Description: Datasheet; ComponentLink2URL: https://katalog.we-online.com/pbs/datasheet/885012008003.pdf; Operating Temperature: -55 to +125degC; Packaging: Tape and Reel; Publisher: Wurth Elektronik; Rated Voltage: 10VDC; Published Date: August 2019; Capacitance Tolerance: +/-5%; Height: 0.8mm +/-0.10mm; Mounting Technology: SMT; Size: 1206; Capacitance: 47pF
footprint WCAP-CSGP_1206_H=0.8mm
pins: 1, 2

## 885012008004
designator C?, comment 100pF, 10V
WCAP-CSGP General Purpose Ceramic Capacitors, size 1206, 100pF, +/-5%, 10VDC; Part Number: 885012008004; Isolation Resistance: >=10GOhm; Ceramic Type: NP0; Dissipation Factor: Q>=1000; Technical Reference: NP01206101J010DFCT10000; ComponentLink1Description: Manufacturer; ComponentLink1URL: http://www.we-online.de; ComponentLink2Description: Datasheet; ComponentLink2URL: https://katalog.we-online.com/pbs/datasheet/885012008004.pdf; Operating Temperature: -55 to +125degC; Packaging: Tape and Reel; Publisher: Wurth Elektronik; Rated Voltage: 10VDC; Published Date: August 2019; Capacitance Tolerance: +/-5%; Height: 0.8mm +/-0.10mm; Mounting Technology: SMT; Size: 1206; Capacitance: 100pF
footprint WCAP-CSGP_1206_H=0.8mm
pins: 1, 2

## 885012008005
designator C?, comment 470pF, 10V
WCAP-CSGP General Purpose Ceramic Capacitors, size 1206, 470pF, +/-5%, 10VDC; Part Number: 885012008005; Isolation Resistance: >=10GOhm; Ceramic Type: NP0; Dissipation Factor: Q>=1000; Technical Reference: NP01206471J010DFCT10000; ComponentLink1Description: Manufacturer; ComponentLink1URL: http://www.we-online.de; ComponentLink2Description: Datasheet; ComponentLink2URL: https://katalog.we-online.com/pbs/datasheet/885012008005.pdf; Operating Temperature: -55 to +125degC; Packaging: Tape and Reel; Publisher: Wurth Elektronik; Rated Voltage: 10VDC; Published Date: August 2019; Capacitance Tolerance: +/-5%; Height: 0.8mm +/-0.10mm; Mounting Technology: SMT; Size: 1206; Capacitance: 470pF
footprint WCAP-CSGP_1206_H=0.8mm
pins: 1, 2

## 885012008006
designator C?, comment 2.2nF, 10V
WCAP-CSGP General Purpose Ceramic Capacitors, size 1206, 2.2nF, +/-5%, 10VDC; Part Number: 885012008006; Isolation Resistance: >=10GOhm; Ceramic Type: NP0; Dissipation Factor: Q>=1000; Technical Reference: NP01206222J010DFCT10000; ComponentLink1Description: Manufacturer; ComponentLink1URL: http://www.we-online.de; ComponentLink2Description: Datasheet; ComponentLink2URL: https://katalog.we-online.com/pbs/datasheet/885012008006.pdf; Operating Temperature: -55 to +125degC; Packaging: Tape and Reel; Publisher: Wurth Elektronik; Rated Voltage: 10VDC; Published Date: August 2019; Capacitance Tolerance: +/-5%; Height: 0.8mm +/-0.10mm; Mounting Technology: SMT; Size: 1206; Capacitance: 2.2nF
footprint WCAP-CSGP_1206_H=0.8mm
pins: 1, 2

## 885012008007
designator C?, comment 6.8nF, 10V
WCAP-CSGP General Purpose Ceramic Capacitors, size 1206, 6.8nF, +/-5%, 10VDC; Part Number: 885012008007; Isolation Resistance: >=10GOhm; Ceramic Type: NP0; Dissipation Factor: Q>=1000; Technical Reference: NP01206682J010DFCT10000; ComponentLink1Description: Manufacturer; ComponentLink1URL: http://www.we-online.de; ComponentLink2Description: Datasheet; ComponentLink2URL: https://katalog.we-online.com/pbs/datasheet/885012008007.pdf; Operating Temperature: -55 to +125degC; Packaging: Tape and Reel; Publisher: Wurth Elektronik; Rated Voltage: 10VDC; Published Date: August 2019; Capacitance Tolerance: +/-5%; Height: 0.95mm +/-0.10mm; Mounting Technology: SMT; Size: 1206; Capacitance: 6.8nF
footprint WCAP-CSGP_1206_H=0.95mm
pins: 1, 2

## 885012008008
designator C?, comment 10nF, 10V
WCAP-CSGP General Purpose Ceramic Capacitors, size 1206, 10nF, +/-5%, 10VDC; Part Number: 885012008008; Isolation Resistance: >=10GOhm; Ceramic Type: NP0; Dissipation Factor: Q>=1000; Technical Reference: NP01206103J010DFCT10000; ComponentLink1Description: Manufacturer; ComponentLink1URL: http://www.we-online.de; ComponentLink2Description: Datasheet; ComponentLink2URL: https://katalog.we-online.com/pbs/datasheet/885012008008.pdf; Operating Temperature: -55 to +125degC; Packaging: Tape and Reel; Publisher: Wurth Elektronik; Rated Voltage: 10VDC; Published Date: August 2019; Capacitance Tolerance: +/-5%; Height: 1.25mm +/-0.10mm; Mounting Technology: SMT; Size: 1206; Capacitance: 10nF
footprint WCAP-CSGP_1206_H=1.25mm
pins: 1, 2

## 885012008009
designator C?, comment 22nF, 10V
WCAP-CSGP General Purpose Ceramic Capacitors, size 1206, 22nF, +/-5%, 10VDC; Part Number: 885012008009; Isolation Resistance: >=10GOhm; Ceramic Type: NP0; Dissipation Factor: Q>=1000; Technical Reference: NP01206223J010DFCT10000; ComponentLink1Description: Manufacturer; ComponentLink1URL: http://www.we-online.de; ComponentLink2Description: Datasheet; ComponentLink2URL: https://katalog.we-online.com/pbs/datasheet/885012008009.pdf; Operating Temperature: -55 to +125degC; Packaging: Tape and Reel; Publisher: Wurth Elektronik; Rated Voltage: 10VDC; Published Date: August 2019; Capacitance Tolerance: +/-5%; Height: 1.6mm +0.30/-0.10mm; Mounting Technology: SMT; Size: 1206; Capacitance: 22nF
footprint WCAP-CSGP_1206_H=1.6mm
pins: 1, 2

## 885012008010
designator C?, comment 33nF, 10V
WCAP-CSGP General Purpose Ceramic Capacitors, size 1206, 33nF, +/-5%, 10VDC; Part Number: 885012008010; Isolation Resistance: >=10GOhm; Ceramic Type: NP0; Dissipation Factor: Q>=1000; Technical Reference: NP01206333J010DFCT10000; ComponentLink1Description: Manufacturer; ComponentLink1URL: http://www.we-online.de; ComponentLink2Description: Datasheet; ComponentLink2URL: https://katalog.we-online.com/pbs/datasheet/885012008010.pdf; Operating Temperature: -55 to +125degC; Packaging: Tape and Reel; Publisher: Wurth Elektronik; Rated Voltage: 10VDC; Published Date: August 2019; Capacitance Tolerance: +/-5%; Height: 1.6mm +0.30/-0.10mm; Mounting Technology: SMT; Size: 1206; Capacitance: 33nF
footprint WCAP-CSGP_1206_H=1.6mm
pins: 1, 2